# Altium schematic symbol library BIB SCH GERAL.SchLib: 587 symbols (part 1 of 4)
Pins are listed as number, name and electrical type; pins without a type are passive.

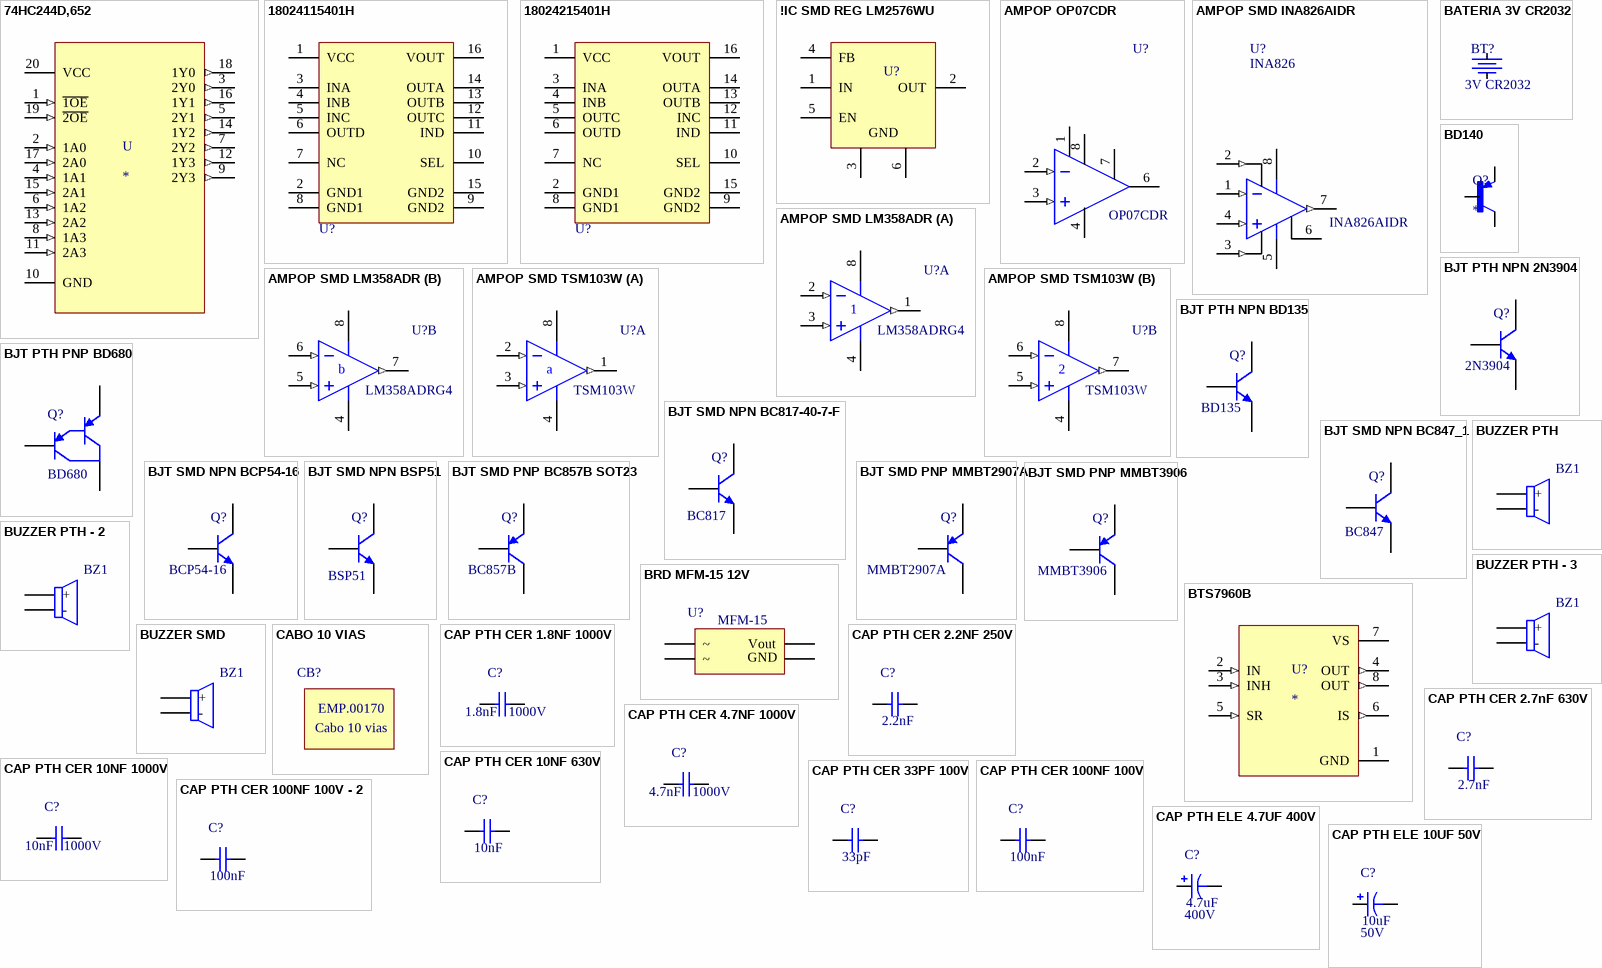
[diagram p0: symbols 74HC244D,652 to CAP PTH ELE 10UF 50V]

## 74HC244D,652
designator U
Buffer, Non-Inverting 2 Element 4 Bit per Element 3-State Output 20-SO; MF: Nexperia; MP: 74HC244D,652; Package: SOIC-20 NXP Semiconductors; Availability: Unavailable; Value: *; SnapEDA_Link: https://www.snapeda.com/parts/74HC244D%2C652/Nexperia/view-part/350903/?ref=snap; Price: None
footprint SOIC127P1032X265-20N
pins: 1 ~{1OE} (in), 2 1A0 (in), 3 2Y0 (out), 4 1A1 (in), 5 2Y1 (out), 6 1A2 (in), 7 2Y2 (out), 8 1A3 (in), 9 2Y3 (out), 10 GND, 11 2A3 (in), 12 1Y3 (out), 13 2A2 (in), 14 1Y2 (out), 15 2A1 (in), 16 1Y1 (out), 17 2A0 (in), 18 1Y0 (out), 19 ~{2OE} (in), 20 VCC (power)

## 18024115401H
designator U?, comment 3/1 Channel, 5000V, Output High  (value not drawn)
WPME-CDIP Capacitive Digital Isolator Powered, SOIC-16WB, 3/1 Channel, 5000V, Output High; Manufacturer Part Number: 18024115401H; Manufacturer: Wurth Elektronik; Common Mode Transient Immunity: 150kV/us; Data Rate: 100Mbps; Isolation Voltage: 5000V (RMS); Operating Supply Voltage Min: 3.15V; Operating Supply Voltage Max: 5.5V; Propagation Delay: 10ns; Category: Digital Isolator; Match Code: WPME-CDIP; ComponentLink1Description: Website Link; ComponentLink1URL: https://www.we-online.com/redexpert/article/18024115401H?ad; ComponentLink2Description: Datasheet Link; ComponentLink2URL: https://www.we-online.com/redexpert/spec/18024115401H?ad; Mount: Surface Mount; Operating Temperature Max: 125°C; Operating Temperature Min: -40°C; Packaging: Tape and Reel; Case/Size Code: SOIC-16WB; Length: 10.3mm; Width: 7.5mm; Height: 2.5mm; Channel Configuration: 3/1; Default Output: High
footprint WPME-CDIP_SOIC-16WB
pins: 1 VCC, 2 GND1, 3 INA, 4 INB, 5 INC, 6 OUTD, 7 NC, 8 GND1, 9 GND2, 10 SEL, 11 IND, 12 OUTC, 13 OUTB, 14 OUTA, 15 GND2, 16 VOUT

## 18024215401H
designator U?, comment 2/2 Channel, 5000V, Output High  (value not drawn)
WPME-CDIP Capacitive Digital Isolator Powered, SOIC-16WB, 2/2 Channel, 5000V, Output High; Manufacturer Part Number: 18024215401H; Manufacturer: Wurth Elektronik; Common Mode Transient Immunity: 150kV/us; Data Rate: 100Mbps; Isolation Voltage: 5000V (RMS); Operating Supply Voltage Min: 3.15V; Operating Supply Voltage Max: 5.5V; Propagation Delay: 10ns; Category: Digital Isolator; Match Code: WPME-CDIP; ComponentLink1Description: Website Link; ComponentLink1URL: https://www.we-online.com/redexpert/article/18024215401H?ad; ComponentLink2Description: Datasheet Link; ComponentLink2URL: https://www.we-online.com/redexpert/spec/18024215401H?ad; Mount: Surface Mount; Operating Temperature Max: 125°C; Operating Temperature Min: -40°C; Packaging: Tape and Reel; Case/Size Code: SOIC-16WB; Length: 10.3mm; Width: 7.5mm; Height: 2.5mm; Channel Configuration: 2/2; Default Output: High
footprint WPME-CDIP_SOIC-16WB
pins: 1 VCC, 2 GND1, 3 INA, 4 INB, 5 OUTC, 6 OUTD, 7 NC, 8 GND1, 9 GND2, 10 SEL, 11 IND, 12 INC, 13 OUTB, 14 OUTA, 15 GND2, 16 VOUT

## !IC SMD REG LM2576WU
designator U?  (value not drawn)
footprint DPAK6P170_1524X459L254X81N
pins: 1 IN, 2 OUT, 3, 4 FB, 5 EN, 6
text: GND

## AMPOP OP07CDR
designator U?  Manufacturer Part Number: OP07CDR  (hidden comment: AMPOP OP07CDR)
IC OPAMP GP 600KHZ 8SOIC; Manufacturer: Texas Instruments; Amplifier Type: General Purpose; Number of Circuits: 1; Slew Rate: 0.3 V/µs; COD. CRISTOFOLI: EMP.00350; List: IC OPAMP GP 600KHZ 8SOIC/OP07CDR/Texas Instruments; Current - Input Bias: 1.8nA; Voltage - Input Offset: 60µV; Voltage - Supply, Single/Dual (±): ±3 V ~ 18 V; Supplier 1: Digi-Key; RoHS: RoHS Compliant; Category: Integrated Circuits (ICs); Stock 1: 8993; Pricing 1: 1=0.82, 10=0.722, 25=0.638, 100=0.556, 250=0.484, 500=0.412, 750=0.36, 1000=0.33 (USD); Packaging: Digi-Reel®; Output Type: -; Current - Supply: -; Current - Output / Channel: -; Operating Temperature: 0°C ~ 70°C; Mounting Type: Surface Mount; Package / Case: 8-SOIC (0.154", 3.90mm Width); Supplier Device Package: 8-SOIC; ComponentLink1URL: http://www.ti.com/lit/ds/symlink/op07c.pdf; ComponentLink1Description: http://www.ti.com/lit/ds/symlink/op07c.pdf; Supplier Part Number 1: 296-14626-6-ND
footprint SOIC8
pins: 1 0FF2, 2 IN- (in), 3 IN+ (in), 4 V- (power), 6 OUT, 7 V+ (power), 8 0FF1 (power)

## AMPOP SMD INA826AIDR
designator U?, comment INA826  Manufacturer Part Number: INA826AIDR
IC OPAMP INSTR 1MHZ RRO 8SOIC; Manufacturer: Texas Instruments; Amplifier Type: Instrumentation; Number of Circuits: 1; Output Type: Rail-to-Rail; Slew Rate: 1 V/µs; Current - Input Bias: 35nA; Voltage - Input Offset: 40µV; Current - Supply: 200µA; Current - Output / Channel: 16mA; Voltage - Supply, Single/Dual (±): 2.7 V ~ 36 V, ±1.35 V ~ 18 V; List: IC OPAMP INSTR 1MHZ RRO 8SOIC/INA826AIDR/Texas Instrument; COD. CRISTOFOLI: EMP.00206; Supplier 1: Digi-Key; RoHS: RoHS Compliant; Category: Integrated Circuits (ICs); Stock 1: 3194; Pricing 1: 1=3.16, 10=2.851, 25=2.5544, 100=2.2968, 250=2.0394, 500=1.782, 750=1.61371, 1000=1.2375 (USD); Packaging: Digi-Reel®; Gain Bandwidth Product: -; Operating Temperature: -40°C ~ 125°C; Mounting Type: Surface Mount; Package / Case: 8-SOIC (0.154", 3.90mm Width); Supplier Device Package: 8-SOIC; ComponentLink1URL: http://www.ti.com/lit/ds/symlink/ina826.pdf; EMP: *; list: *; Supplier Part Number 1: 296-30238-6-ND
footprint 8SOIC
pins: 1 IN- (in), 2 RG (in), 3 RG (in), 4 IN+ (in), 5 V- (power), 6 REF (power), 7 OUT (out), 8 V+ (power)

## AMPOP SMD LM358ADR
designator U?  Manufacturer Part Number: LM358ADRG4  (hidden comment: AMPOP SMD LM358ADR)
Dual Operational Amplifier; Manufacturer: Texas Instruments; List: IC OPAMP GP 700KHZ DUAL 8SOIC / LM358ADRG4 / Texas Inst /  DIODES INCORPORATED - AS358AMTR-G1; COD. CRISTOFOLI: EMP.00074; Published: 15-Apr-2002; LatestRevisionDate: 13-Apr-2006; LatestRevisionNote: IPC-7351 Footprint Added.; DatasheetVersion: Aug-1988; PackageVersion: Jan-1998; PackageReference: D008; Publisher: Altium Limited; Code_IPC: SOIC127P600-8; ComponentLink1Description: Manufacturer Link; ComponentLink2Description: Datasheet; ComponentLink2URL: http://www-s.ti.com/sc/ds/lm358.pdf
footprint D008_L (SOIC, 8-Leads, Body 4.9x3.9mm, Pitch 1.27mm, IPC High Density)
footprint D008_M (SOIC, 8-Leads, Body 4.9x3.9mm, Pitch 1.27mm, IPC Low Density)
footprint D008_M (SOIC, 8-Leads, Body 4.9x3.9mm, Pitch 1.27mm, IPC Low Density)
3D model D008 (8-Pin Small Outline Integrated Circuit 1.27 mm Pitch)
footprint soic8
pins on every part: 4 V- (power), 8 V+ (power)
part A pins: 1 OUT (out), 2 IN- (in), 3 IN+ (in)
part B pins: 5 IN+ (in), 6 IN- (in), 7 OUT (out)
part B text: b

## AMPOP SMD TSM103W
designator U?, comment Manufacturer Part Number: TSM103W  (hidden comment: AMPOP SMD LM358ADR)
Dual Operational Amplifier; Manufacturer: Texas Instruments; List: IC OPAMP GP 700KHZ DUAL 8SOIC / LM358ADRG4 / Texas Inst /  DIODES INCORPORATED - AS358AMTR-G1; COD. CRISTOFOLI: EMP.00074; Published: 15-Apr-2002; LatestRevisionDate: 13-Apr-2006; LatestRevisionNote: IPC-7351 Footprint Added.; DatasheetVersion: Aug-1988; PackageVersion: Jan-1998; PackageReference: D008; Publisher: Altium Limited; Code_IPC: SOIC127P600-8; ComponentLink1Description: Manufacturer Link; ComponentLink2Description: Datasheet; ComponentLink2URL: http://www-s.ti.com/sc/ds/lm358.pdf
footprint D008_L (SOIC, 8-Leads, Body 4.9x3.9mm, Pitch 1.27mm, IPC High Density)
footprint D008_M (SOIC, 8-Leads, Body 4.9x3.9mm, Pitch 1.27mm, IPC Low Density)
footprint D008_M (SOIC, 8-Leads, Body 4.9x3.9mm, Pitch 1.27mm, IPC Low Density)
3D model D008 (8-Pin Small Outline Integrated Circuit 1.27 mm Pitch)
footprint soic8
pins on every part: 4 V- (power), 8 V+ (power)
part A pins: 1 OUT (out), 2 IN- (in), 3 IN+ (in)
part B pins: 5 IN+ (in), 6 IN- (in), 7 OUT (out)
part A text: a

## BATERIA 3V CR2032
designator BT?  value 3V CR2032  (hidden comment: BATERIA 3V CR2032)
List: BATTERY LITHIUM 3V COIN 20MM/CR2032VP/Energizer Battery Company; COD. CRISTOFOLI: EMP.00351; Published: 24-Mar-1999; LatestRevisionDate: 17-Jul-2002; LatestRevisionNote: Re-released for DXP Platform.; PackageReference: BAT-2; PackageDescription: Battery; 2 Leads
footprint BATTERY_HOLDER_20MM

## BD140
designator Q?
TRANS PNP 80V 1.5A SOT-32; MP: BD140; Value: *; Package: None; Availability: Unavailable; Price: None
footprint TO245P780X300X1364-3
pins: 1 E, 2 C, 3 B

## BJT PTH NPN 2N3904
designator Q?  value 2N3904  (hidden comment: BJT PTH NPN 2N3904)
Manufacturer Part Number: 2N3904-AP; COD. CRISTOFOLI: EMP.00028; List: TRANSISTOR NPN GP 40V TO92 – 2N3904-AP
footprint TO92(226)
pins: 1 C, 2 B, 3 E

## BJT PTH NPN BD135
designator Q?  value BD135  (hidden comment: BJT PTH NPN BD135)
Manufacturer Part Number: BD135G; COD. CRISTOFOLI: EMP.00000; Voltage: 45V; List: TRANSISTOR NPN  45V TO225 – BD135G
footprint TO225
pins: 1 E, 2 C, 3 B

## BJT PTH PNP BD680
designator Q?  Manufacturer Part Number: BD680  (hidden comment: BJT PTH PNP BD680)
Manufacturer: ST Microelectronics; COD. CRISTOFOLI: EMP.00193; List: TRANS DARL PNP 80V SOT-32/BD680/STMicroelectronics; Value: BD680
footprint TO225
pins: 1 E, 2 B, 3 C

## BJT SMD NPN BC817-40-7-F
designator Q?  value BC817  (hidden comment: BJT SMD NPN BC817-40-7-F)
Manufacturer: Diodes Inc; COD. CRISTOFOLI: EMP.00060; List: TRANSISTOR NPN 45V SOT23-3 / BC817-40-7-F / Diodes Inc; Manufacturer Part Number: BC817-40-7-F
footprint SOT23H
pins: 1 B, 2 E, 3 C

## BJT SMD NPN BC847_1
designator Q?, comment value BC847  (hidden comment: BJT SMD NPN BC847)
Manufacturer: MOTOROLA; COD. CRISTOFOLI: EMP.00013; List: TRANSISTOR NPN 45V 100MA SOT-23 BC847BLT1G/BC847B-7-F; Manufacturer Part Number: BC847
footprint SOT23H
pins: 1 B, 2 E, 3 C

## BJT SMD NPN BCP54-16
designator Q?  value BCP54-16  (hidden comment: BJT SMD NPN BCP54-16)
Manufacturer: NXP Semiconductors; Manufacturer Part Number: BCP54-16,115; COD. CRISTOFOLI: EMP.00062; List: TRANSISTOR NPN 45V 1A SOT223 / BCP54-16,115 / NXP Semiconductors
footprint SOT223
pins: 1 C, 2 B, 3 E

## BJT SMD NPN BSP51
designator Q?  value BSP51  (hidden comment: BJT SMD NPN BSP51)
Manufacturer: Diodes Inc; COD. CRISTOFOLI: EMP.50061; List: BJT SMD NPN BSP51,115 SOT223
footprint SOT223
pins: 1 B, 3 E, 4 C

## BJT SMD PNP BC857B SOT23
designator Q?  value BC857B  (hidden comment: BJT SMD PNP BC857B SOT23)
Manufacturer: Fairchild Semiconductor; Manufacturer Part Number: BC857BMTF; COD. CRISTOFOLI: EMP.50021; List: BJT SMD PNP BC857B SOT23
footprint SOT23H
pins: 1 B, 2 E, 3 C

## BJT SMD PNP MMBT2907A
designator Q?  value MMBT2907A  (hidden comment: BJT SMD PNP MMBT2907A)
Manufacturer: Diodes Inc; Manufacturer Part Number: MMBT2907A-7-F; COD. CRISTOFOLI: EMP.00125; List: TRANS PNP 60V 300MW SMD SOT23-3/MMBT2907A-7-F/Diodes Inc
footprint SOT23H
pins: 1 B, 2 E, 3 C

## BJT SMD PNP MMBT3906
designator Q?  value MMBT3906  (hidden comment: BJT SMD PNP MMBT3906)
Manufacturer: Diodes Inc; Manufacturer Part Number: MMBT3906-7-F; COD. CRISTOFOLI: EMP.00061; List: TRANS PNP 40V 300MW SMD SOT23-3 / MMBT3906-7-F / Diodes Inc
footprint SOT23H
pins: 1 C, 2 B, 3 E

## BRD MFM-15 12V
designator U?, comment value MFM-15  (hidden comment: IC SMD CONV BUCK LT3971EMSE-5)
Conversor AC/DC; Manufacturer: Linear Technology; Manufacturer Part Number: LT3971EMSE-5#PBF; COD. CRISTOFOLI: EMP.00234; List: IC REG BUCK 5V 1.2A 10-MSOP/LT3971EMSE-5#PBF/Linear Technology
footprint mfm-15
pins: 1 GND, 2 Vout, 3 ~, 4 ~

## BTS7960B
designator U?
Half Bridge Driver DC Motors, General Purpose DMOS PG-TO263-7-1; MF: Infineon; MP: BTS7960B; Package: TO-263 Infineon; Check_prices: https://www.snapeda.com/parts/BTS7960B/Infineon+Technologies/view-part/?ref=eda; Availability: In Stock; Value: *; Price: None; SnapEDA_Link: https://www.snapeda.com/parts/BTS7960B/Infineon+Technologies/view-part/?ref=snap
footprint dpak127p1490x440-8n
pins: 1 GND (power), 2 IN (in), 3 INH (in), 4 OUT (out), 5 SR (in), 6 IS (out), 7 VS (power), 8 OUT (out)

## BUZZER PTH
designator BZ1, comment Buzzer 9mm  (value not drawn)
COD. CRISTOFOLI: EMP.00057; List: BUZZER 2 kHz a 3 kHz 4-6V EXT DRIVE / GT0905A - Soberton Inc / Kr 1365A05 – Kore Eletronics
footprint BUZZER_9MM
pins: 1 +, 2 -

## BUZZER PTH - 2
designator BZ1, comment Buzzer 9mm  (value not drawn)
COD. CRISTOFOLI: EMP.00152; List: BUZZER 2.73KHZ 4-6V EXT DRIVE /GT0905A/Soberton Inc
footprint BUZZER_9MM
pins: 1 +, 2 -

## BUZZER PTH - 3
designator BZ1, comment Buzzer 9mm  (value not drawn)
COD. CRISTOFOLI: EMP.00323; List: Buzzer piezzo OSC EXTERNO/ SPT-27W-LP/sonalarme
footprint BUZZER_9MM
pins: 1 +, 2 -

## BUZZER SMD
designator BZ1, comment Buzzer 9mm  (value not drawn)
COD. CRISTOFOLI: EMP.00011; List: ALARME SONORO 5V 88DBA 2400HZ - PUI AUDIO SMI-1324-TW-5V-2-R / MESSRS AD-1305-GU2-LF/ Kr 1365A05 – Kore Eletronics
footprint BUZZER_9MM
pins: 1 +, 2 -

## CABO 10 VIAS
designator CB?  COD. CRISTOFOLI: EMP.00170  Voltage: Cabo 10 vias
List: Cabo Display VPN 12/21 Manga IFE 10 X 26 AWG-BT (Com Blindagem em traça de cobre)

## CAP PTH CER 1.8NF 1000V
designator C?  value 1.8nF  Voltage: 1000V  (hidden comment: CAP PTH CER 1.8NF 1000V)
COD. CRISTOFOLI: EMP.00278; Tolerance: 10%; List: CAP CER 1800PF 1KV 10% RADIAL/S182K33Y5PN63L6R/Vishay BC Components; Type: CERAMIC
pins: 1, 2

## CAP PTH CER 2.2NF 250V
designator C?  value 2.2nF  (hidden comment: CAP PTH CER 2.2NF 250V)
COD. CRISTOFOLI: EMP.00105; Tolerance: 20%; List: CAP CER 2200PF 250VAC 20% RADIAL/CD12-E2GA222MYNS/TDK; Type: CERAMIC; Voltage: 250V
pins: 1, 2

## CAP PTH CER 2.7nF 630V
designator C?  value 2.7nF  (hidden comment: CAP PTH CER 2.7nF 630V)
Manufacturer: TDK; Manufacturer Part Number: FG26C0G2J272JNT00; COD. CRISTOFOLI: EMP.00440; Tolerance: 5%; List: CAP PTH CER 2.7nF 630V / FG26C0G2J272JNT00; Type: CERAMIC CAPACITOR; Voltage: 630V
pins: 1, 2

## CAP PTH CER 4.7NF 1000V
designator C?  value 4.7nF  Voltage: 1000V  (hidden comment: CAP PTH CER 4.7NF 1000V)
COD. CRISTOFOLI: EMP.00189; Tolerance: 20%; List: CAP CER 4700PF 1KV RADIAL/DEBF33A472ZN2A/Murata Electronics North America; Type: CERAMIC
pins: 1, 2

## CAP PTH CER 10NF 630V
designator C?  value 10nF  (hidden comment: CAP PTH CER 10NF 630V)
COD. CRISTOFOLI: EMP.00123; Tolerance: 5%; List: CAP CER 10000PF 630V 5% RADIAL/FK22C0G2J103J/TDK Corporation; Type: CERAMIC; Voltage: 630V
pins: 1, 2

## CAP PTH CER 10NF 1000V
designator C?  value 10nF  Voltage: 1000V  (hidden comment: CAP PTH CER 10NF 1000V)
COD. CRISTOFOLI: EMP.00103; Tolerance: 20%; List: CAP CER 10000PF 1KV RADIAL/DEBF33A103ZN2A/Murata; Type: CERAMIC
pins: 1, 2

## CAP PTH CER 33PF 100V
designator C?  value 33pF  (hidden comment: CAP PTH CER 33PF 100V)
COD. CRISTOFOLI: EMP.00296; Tolerance: 5%; List: CAP CER 33PF 100V 5% RADIAL/SR211A330JARTR1/AVX Corporation; Type: CERAMIC; Voltage: 100V
pins: 1, 2

## CAP PTH CER 100NF 100V
designator C?  value 100nF  (hidden comment: CAP PTH CER 100NF 100V)
COD. CRISTOFOLI: EMP.00285; Tolerance: 20%; List: CAP CER 0.1UF 100V 20% RADIAL /C320C104M1U5TA/Generic; Type: CERAMIC; Voltage: 100V
pins: 1, 2

## CAP PTH CER 100NF 100V - 2
designator C?  value 100nF  (hidden comment: CAP PTH CER 100NF 100V - 2)
COD. CRISTOFOLI: EMP.00287; Tolerance: 20%; List: CAP CER 0.1UF 100V 20% RADIAL/ C322C104M1U5TA7301/Generic; Type: CERAMIC; Voltage: 100V
pins: 1, 2

## CAP PTH ELE 4.7UF 400V
designator C?  value 4.7uF  Voltage: 400V  (hidden comment: CAP PTH ELE 4.7UF 400V)
COD. CRISTOFOLI: EMP.00217; Tolerance: 20%; List: CAP ALUM 4.7UF 400V 20% RADIAL/400PX4R7MEFCTA8X11.5/Rubycon/Generic; Type: ALUMINIUM ELETROLITHIC
footprint CAP8X12.5X3.5_90°
pins: 1, 2

## CAP PTH ELE 10UF 50V
designator C?  value 10uF  Voltage: 50V  (hidden comment: CAP PTH ELE 10UF 50V)
COD. CRISTOFOLI: EMP.00097; Tolerance: 20%; List: CAP ALUM 10UF 50V 20% RADIAL/ECA-1HHG100/Panasonic; Type: ALUMINIUM ELETROLITHIC
pins: 1, 2

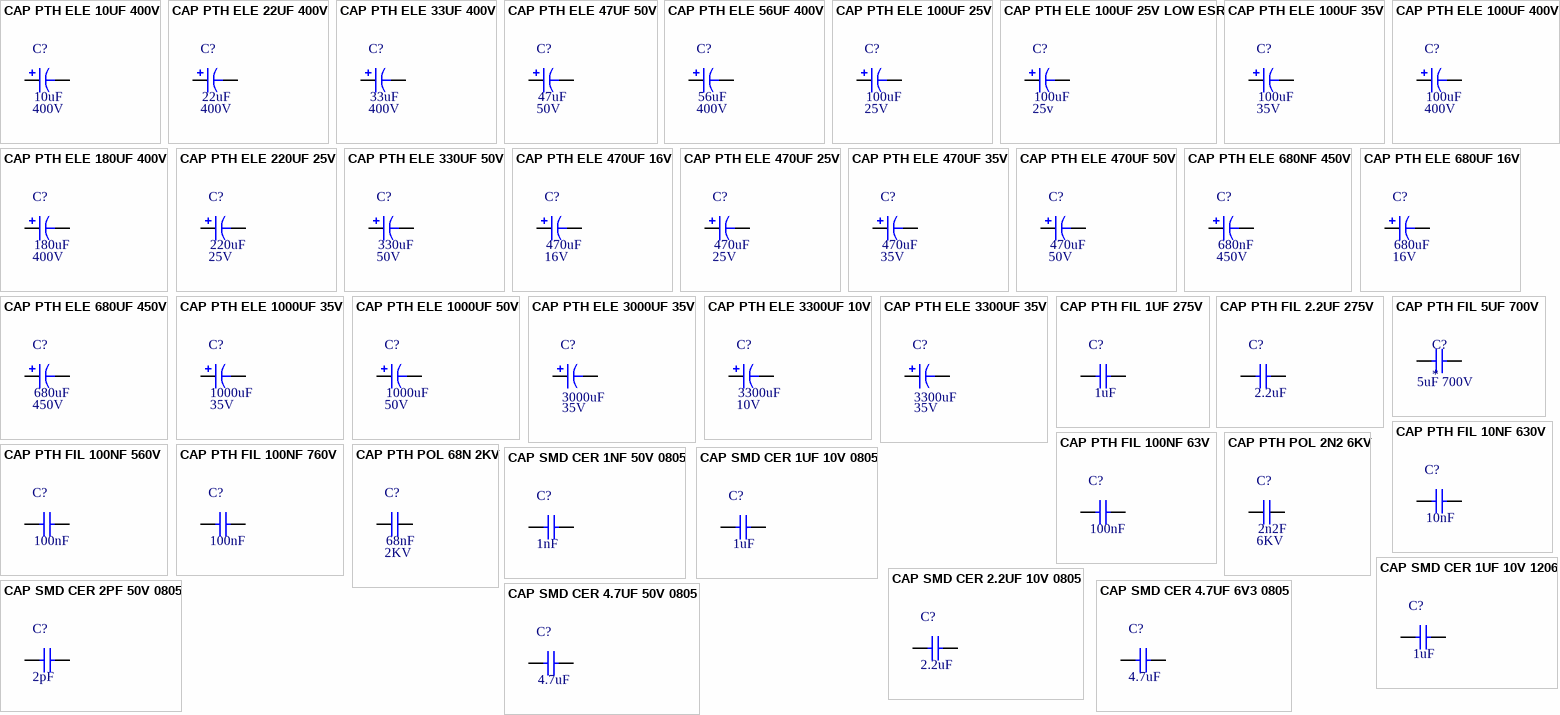
[diagram p1: symbols CAP PTH ELE 10UF 400V to CAP SMD CER 4.7UF 50V 0805]

## CAP PTH ELE 10UF 400V
designator C?  value 10uF  Voltage: 400V  (hidden comment: CAP PTH ELE 10UF 400V)
COD. CRISTOFOLI: EMP.00219; Tolerance: 20%; List: CAP ALUM 10UF 400V 20% RADIAL/EEU-EE2G100/Panasonic Electronic Components/Generic; Type: ALUMINIUM ELETROLITHIC
pins: 1, 2

## CAP PTH ELE 22UF 400V
designator C?  value 22uF  Voltage: 400V  (hidden comment: CAP PTH ELE 22UF 400V)
COD. CRISTOFOLI: EMP.00277; Tolerance: 20%; List: CAP ALUM 22UF 400V 20% RADIAL/Generic; Type: ALUMINIUM ELETROLITHIC
pins: 1, 2

## CAP PTH ELE 33UF 400V
designator C?  value 33uF  Voltage: 400V  (hidden comment: CAP PTH ELE 33UF 400V)
COD. CRISTOFOLI: EMP.00161; Tolerance: 20%; List: CAP ALUM 33UF 400V 20% SNAP/LAQ2G330MELZ25/Nichicon; Type: ALUMINIUM ELETROLITHIC
pins: 1, 2

## CAP PTH ELE 47UF 50V
designator C?  value 47uF  Voltage: 50V  (hidden comment: CAP PTH ELE 47UF 50V)
COD. CRISTOFOLI: EMP.00095; Tolerance: 20%; List: CAP ALUM 47UF 50V 20% RADIAL/ECA-1HM470I/Panasonic; Type: ALUMINIUM ELETROLITHIC
pins: 1, 2

## CAP PTH ELE 56UF 400V
designator C?  value 56uF  Voltage: 400V  (hidden comment: CAP PTH ELE 56UF 400V)
COD. CRISTOFOLI: EMP.00190; Tolerance: 20%; List: CAP ALUM 56UF 400V 20% RADIAL/UCY2G560MHD6TN/Nichicon; Type: ALUMINIUM ELETROLITHIC
pins: 1, 2

## CAP PTH ELE 100UF 25V
designator C?  value 100uF  Voltage: 25V  (hidden comment: CAP PTH ELE 100UF 25V)
COD. CRISTOFOLI: EMP.00025; Tolerance: 20%; List: CAP ALUM 100UF 25V 20% RADIAL - ECA-1EM101I; Type: ALUMINIUM ELETROLITHIC
footprint CAPELETR11X6.3X2.5
pins: 1, 2

## CAP PTH ELE 100UF 25V LOW ESR
designator C?  value 100uF  Voltage: 25v  (hidden comment: CAP PTH ELE 100UF 25V LOW ESR)
COD. CRISTOFOLI: EMP.00402; Tolerance: 20%; List: CAP ALUM 100UF LOW ESR 130mOhm 20% 25V RADIAL/ESY107M025AE3AA/KEMET/CRITICO; Type: ALUMINIUM ELETROLITHIC
pins: 1, 2

## CAP PTH ELE 100UF 35V
designator C?  value 100uF  Voltage: 35V  (hidden comment: CAP PTH ELE 100UF 35V)
COD. CRISTOFOLI: EMP.00117; Tolerance: 20%; List: CAP ALUM 100UF 35V 20% RADIAL/EEU-FC1V101/United Chemi-Con; Type: ALUMINIUM ELETROLITHIC
pins: 1, 2

## CAP PTH ELE 100UF 400V
designator C?  value 100uF  Voltage: 400V  (hidden comment: CAP PTH ELE 100UF 400V)
COD. CRISTOFOLI: EMP.00090; Tolerance: 20%; List: CAP ALUM 100UF 400V 20% SNAP/ECO-S2GP101CA/Panasonic Electronic; Type: ALUMINIUM ELETROLITHIC
pins: 1, 2

## CAP PTH ELE 180UF 400V
designator C?  value 180uF  Voltage: 400V  (hidden comment: CAP PTH ELE 180UF 400V)
COD. CRISTOFOLI: EMP.00221; Tolerance: 20%; List: CAP ALUM 180UF 400V 20% SNAP/LGU2G181MELA/Nichicon/; Type: ALUMINIUM ELETROLITHIC
pins: 1, 2

## CAP PTH ELE 220UF 25V
designator C?  value 220uF  Voltage: 25V  (hidden comment: CAP PTH ELE 220UF 25V)
COD. CRISTOFOLI: EMP.00080; Tolerance: 20%; List: CAP ALUM 220UF 25V 20% RADIAL - ECA-1EM101I; Type: ALUMINIUM ELETROLITHIC
pins: 1, 2

## CAP PTH ELE 330UF 50V
designator C?  value 330uF  Voltage: 50V  (hidden comment: CAP PTH ELE 330UF 50V)
COD. CRISTOFOLI: EMP.00220; Tolerance: 20%; List: CAP ALUM 330UF 50V 20% RADIAL/ECA-1HHG331I/ECA-1HHG331I/GENERIC; Type: ALUMINIUM ELETROLITHIC
pins: 1, 2

## CAP PTH ELE 470UF 16V
designator C?  value 470uF  Voltage: 16V  (hidden comment: CAP PTH ELE 470UF 16V)
Manufacturer: PANASONIC; Manufacturer Part Number: ECA-1CM471; COD. CRISTOFOLI: EMP.00000; Tolerance: 20%; List: CAP ALUM 470UF 16V 20% RADIAL / ECA-1CM471/PANASONIC; Type: ALUMINIUM ELETROLITHIC
pins: 1, 2

## CAP PTH ELE 470UF 25V
designator C?  value 470uF  Voltage: 25V  (hidden comment: CAP PTH ELE 470UF 25V)
COD. CRISTOFOLI: EMP.00165; Tolerance: 20%; List: CAP ALUM 470UF 25V 20% RADIAL / EKZE250ELL471MJ16S/United Chemi-Con; Type: ALUMINIUM ELETROLITHIC
pins: 1, 2

## CAP PTH ELE 470UF 35V
designator C?  value 470uF  Voltage: 35V  (hidden comment: CAP PTH ELE 470UF 35V)
COD. CRISTOFOLI: EMP.00272; Tolerance: 20%; List: CAP ALUM 470UF 35V 20% RADIAL/ GENERIC; Type: ALUMINIUM ELETROLITHIC
pins: 1, 2

## CAP PTH ELE 470UF 50V
designator C?  value 470uF  Voltage: 50V  (hidden comment: CAP PTH ELE 470UF 50V)
COD. CRISTOFOLI: EMP.00297; Tolerance: 20%; List: CAP ALUM 470UF 20% 50V RADIAL Diam 10mm x 5mm/Generic; Type: ALUMINIUM ELETROLITHIC
pins: 1, 2

## CAP PTH ELE 680NF 450V
designator C?  value 680nF  Voltage: 450V  (hidden comment: CAP PTH ELE 680NF 450V)
COD. CRISTOFOLI: EMP.00216; Tolerance: 20%; List: CAP ALUM 680UF 16V 20% RADIAL/EEU-FR1C681LB/Panasonic; Type: ALUMINIUM ELETROLITHIC
footprint CAP25X12.5X5
pins: 1, 2

## CAP PTH ELE 680UF 16V
designator C?  value 680uF  Voltage: 16V  (hidden comment: CAP PTH ELE 680UF 16V)
COD. CRISTOFOLI: EMP.00216; Tolerance: 20%; List: CAP ALUM 680UF 16V 20% RADIAL/EEU-FR1C681LB/Panasonic; Type: ALUMINIUM ELETROLITHIC
pins: 1, 2

## CAP PTH ELE 680UF 450V
designator C?  value 680uF  Voltage: 450V  (hidden comment: CAP PTH ELE 680UF 450V)
COD. CRISTOFOLI: EMP.50151; Tolerance: 20%; Type: ALUMINIUM ELETROLITHIC; List: CAP PTH ELE 680UF 450V; Parameter 1: *
footprint CAPPRD1000W160D3600H5200
pins: 1, 2

## CAP PTH ELE 1000UF 35V
designator C?  value 1000uF  Voltage: 35V  (hidden comment: CAP PTH ELE 1000UF 35V)
COD. CRISTOFOLI: EMP.00116; Tolerance: 20%; List: CAP ALUM 1000UF 35V 20% RADIAL LOW ESR/EEU-FC1V102S/Panasonic Electronic Components; Type: ALUMINIUM ELETROLITHIC
pins: 1, 2

## CAP PTH ELE 1000UF 50V
designator C?  value 1000uF  Voltage: 50V  (hidden comment: CAP PTH ELE 1000UF 50V)
COD. CRISTOFOLI: EMP.00023; Tolerance: 20%; List: CAP ALUM 1000UF 50V 20% RADIAL / ECA-1HM102 / Panasonic; Type: ALUMINIUM ELETROLITHIC
pins: 1, 2

## CAP PTH ELE 3000UF 35V
designator C?  value 3000uF  Voltage: 35V  (hidden comment: CAP PTH ELE 3000UF 35V)
EKYC350ELL302MM20S; Manufacturer Part Number: UVZ1V332MHD; COD. CRISTOFOLI: EMP.00000; Tolerance: 20%; List: CAP ALUM 3300UF 35V 20% RADIAL / UVZ1V332MHD / Nichicon; Type: ALUMINIUM ELETROLITHIC
footprint CAP 20x18x7.5
pins: 1, 2

## CAP PTH ELE 3300UF 10V
designator C?  value 3300uF  Voltage: 10V  (hidden comment: CAP PTH ELE 3300UF 10V)
COD. CRISTOFOLI: EMP.00228; Tolerance: 20%; List: CAP ALUM 3300UF 10V 20% RADIAL/UVR1A332MHD/Nichicon; Type: ALUMINIUM ELETROLITHIC
pins: 1, 2

## CAP PTH ELE 3300UF 35V
designator C?  value 3300uF  Voltage: 35V  (hidden comment: CAP PTH ELE 3300UF 35V)
Manufacturer Part Number: UVZ1V332MHD; COD. CRISTOFOLI: EMP.00000; Tolerance: 20%; List: CAP ALUM 3300UF 35V 20% RADIAL / UVZ1V332MHD / Nichicon; Type: ALUMINIUM ELETROLITHIC
pins: 1, 2

## CAP PTH FIL 1UF 275V
designator C?  value 1uF  (hidden comment: CAP PTH FIL 1UF 275V)
COD. CRISTOFOLI: EMP.00389; Tolerance: 20%; List: CAP FILM 1UF 20% 275VAC RADIAL/ECQ-U2A105ML/Panasonic; Type: FILM POLYESTER; Voltage: 275V
footprint CAP11x26
pins: 1, 2

## CAP PTH FIL 2.2UF 275V
designator C?  value 2.2uF  (hidden comment: CAP PTH FIL 2.2UF 275V)
COD. CRISTOFOLI: EMP.00389; Tolerance: 20%; List: CAP FILM 1UF 20% 275VAC RADIAL/ECQ-U2A105ML/Panasonic; Type: FILM POLYESTER; Voltage: 275V
footprint CAP15x26
pins: 1, 2

## CAP PTH FIL 5UF 700V
designator C?
footprint CAPW31L14,7H15P27 (W=width, L=Length, H=Height, P=Pitch)
pins: 1, 2
text: 5uF 700V

## CAP PTH FIL 10NF 630V
designator C?  value 10nF  (hidden comment: CAP PTH FIL 10NF 630V)
COD. CRISTOFOLI: EMP.00044; Tolerance: 10%; List: CAP FILM 10000PF 630VDC RADIAL / B32620A6103K189 / EPCOS; Type: FILM POLYESTER; Voltage: 630V
pins: 1, 2

## CAP PTH FIL 100NF 63V
designator C?  value 100nF  (hidden comment: CAP PTH FIL 100NF 63V)
COD. CRISTOFOLI: EMP.00370; Tolerance: 5%; List: CAP FILM 0.1UF 5% 63VDC RADIAL/R82DC3100DQ50J/Kemet; Type: FILM POLYESTER; Voltage: 63V
pins: 1, 2

## CAP PTH FIL 100NF 560V
designator C?  value 100nF  (hidden comment: CAP PTH FIL 100NF 560V)
COD. CRISTOFOLI: EMP.00086; Tolerance: 10%; List: CAP FILM 0.1UF 560VDC RADIAL/R46KI310000M1K/Panasonic; Type: FILM POLYESTER; Voltage: 560V
pins: 1, 2

## CAP PTH FIL 100NF 760V
designator C?  value 100nF  (hidden comment: CAP PTH FIL 100NF 760V)
COD. CRISTOFOLI: EMP.00328; Tolerance: 20%; List: CAP FILM 0.1UF 760VDC RADIAL/ PHE840MB6100MB05R17 /Kemet; Type: FILM POLYESTER; Voltage: 760V
pins: 1, 2

## CAP PTH POL 2N2 6KV
designator C?, comment value 2n2F  Voltage: 6KV  (hidden comment: CAP PTH ELE 2N2 6KV)
Manufacturer: PANASONIC; Manufacturer Part Number: ECA-1CM471; COD. CRISTOFOLI: EMP.50154; Tolerance: 20%; Type: ALUMINIUM ELETROLITHIC; List: CAP PTH ELE 2N2 6KV
footprint CAP2N26KV
pins: 1, 2

## CAP PTH POL 68N 2KV
designator C?  value 68nF  Voltage: 2KV  (hidden comment: CAP PTH POL 68N 2KV)
Manufacturer: PANASONIC; Manufacturer Part Number: ECA-1CM471; COD. CRISTOFOLI: EMP.50154; Tolerance: 20%; List: CAP PTH ELE 2N2 6KV; Type: ALUMINIUM ELETROLITHIC
footprint CAP2N26KV
pins: 1, 2

## CAP SMD CER 1NF 50V 0805
designator C?  value 1nF  (hidden comment: CAP SMD CER 1NF 50V 0805)
Manufacturer Part Number: C0805C102K5RECAUTO; COD. CRISTOFOLI: EMP.00000; Tolerance: 10%; List: CAP CER 1nF 50V 10% X7R 0805/C0805C102K5RECAUTO/KEMET; Type: CERAMIC; Voltage: 50V
footprint CAP0805OK
pins: 1, 2

## CAP SMD CER 1UF 10V 0805
designator C?  value 1uF  (hidden comment: CAP SMD CER 1UF 10V 0805)
COD. CRISTOFOLI: EMP.00209; Tolerance: 20%; List: CAP- SMD/SMT X7R 0805 10V 1uF 20%/LMK212BJ105MG-T/Taiyo Yuden; Type: CERAMIC; Voltage: 10V
pins: 1, 2

## CAP SMD CER 1UF 10V 1206
designator C?  value 1uF  (hidden comment: CAP SMD CER 1UF 10V 1206)
COD. CRISTOFOLI: EMP.50142; Tolerance: 20%; Type: CERAMIC; Voltage: 10V; List: CAP SMD CER 1UF 10V 1206
footprint CAPC1206 (Multilayer Ceramic Capacitors MLCC  3.2X1.6X1mm)
pins: 1, 2

## CAP SMD CER 2.2UF 10V 0805
designator C?  value 2.2uF  (hidden comment: CAP SMD CER 2.2UF 10V 0805)
COD. CRISTOFOLI: EMP.00212; Tolerance: 10%; List: CAP CER 2.2UF 10V 10% X7R 0805/LMK212B7225KG-T/Taiyo Yuden/Generic; Type: CERAMIC; Voltage: 10V
pins: 1, 2

## CAP SMD CER 2PF 50V 0805
designator C?  value 2pF  (hidden comment: CAP SMD CER 2PF 50V 0805)
COD. CRISTOFOLI: EMP.50160; Tolerance: 10%; Type: CERAMIC; Voltage: 50V; List: CAP SMD CER 2PF 50V 0805
footprint CAP0805OK
pins: 1, 2

## CAP SMD CER 4.7UF 6V3 0805
designator C?  value 4.7uF  (hidden comment: CAP SMD CER 4.7UF 6V3 0805)
COD. CRISTOFOLI: EMP.00211; Tolerance: 20%; List: CAP CER 4.7UF 6.3V 20% X5R 0805/JMK212BJ475MG-T/Taiyo Yuden/Generic; Type: CERAMIC; Voltage: 6V3
pins: 1, 2

## CAP SMD CER 4.7UF 50V 0805
designator C?  value 4.7uF  (hidden comment: CAP SMD CER 4.7UF 50V 0805)
COD. CRISTOFOLI: EMP.00333; Tolerance: 10%; List: CAP CER 4.7UF 50V X5R 0805/CL21A475KBQNNNE/Samsung; Type: CERAMIC; Voltage: 50V
pins: 1, 2

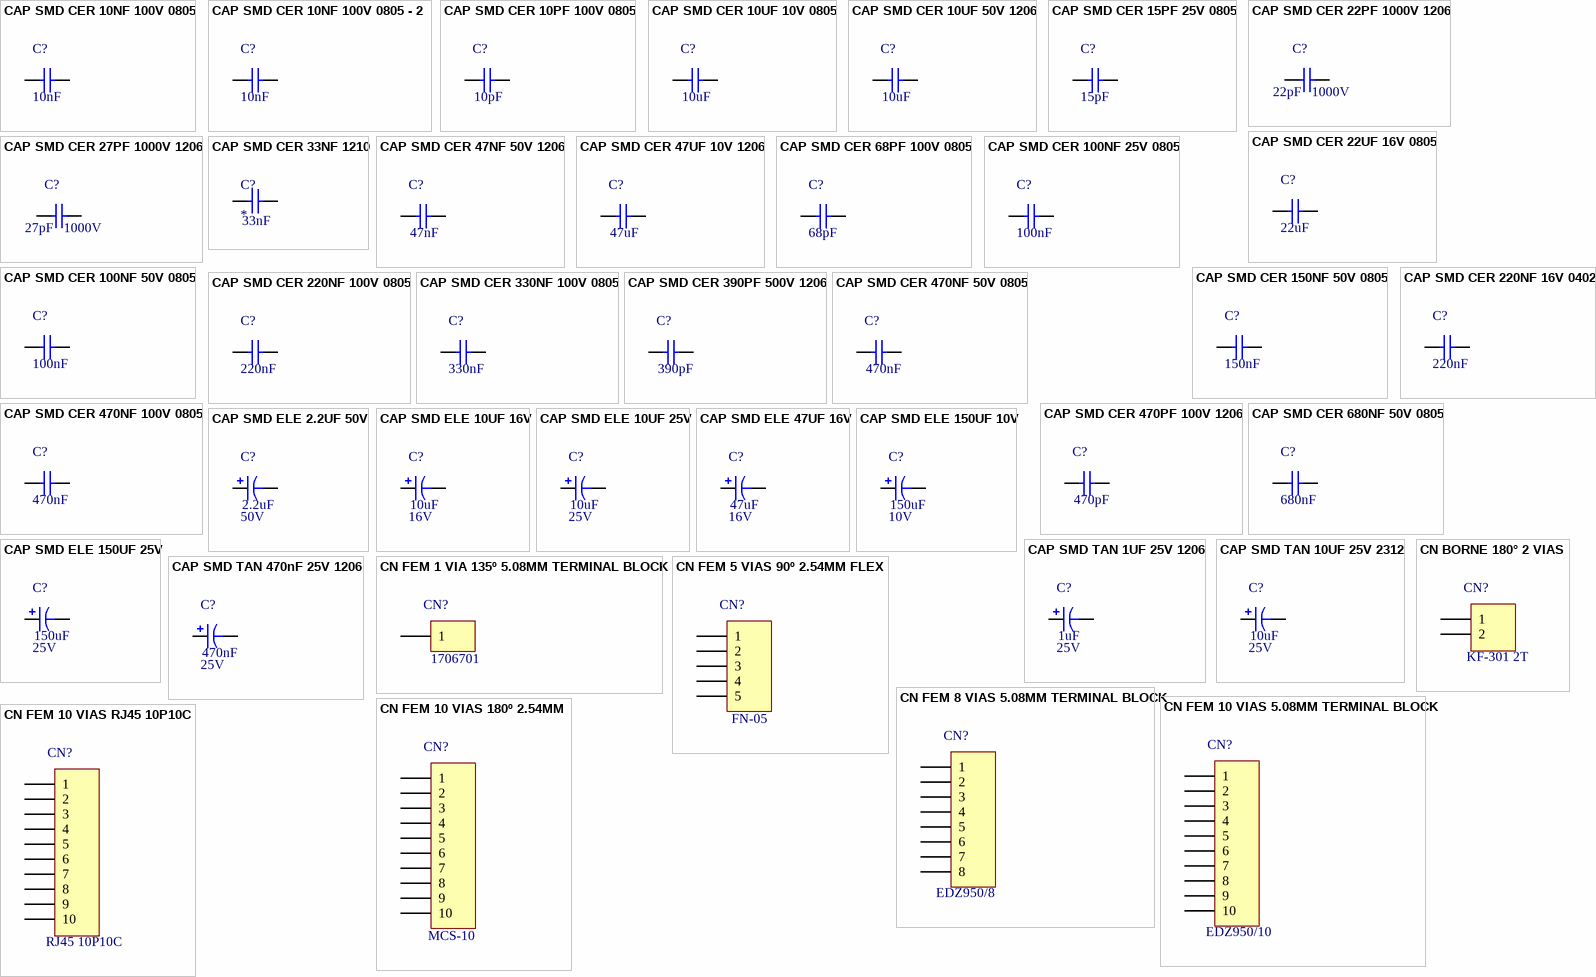
[diagram p2: symbols CAP SMD CER 10NF 100V 0805 to CN FEM 10 VIAS RJ45 10P10C]

## CAP SMD CER 10NF 100V 0805
designator C?  value 10nF  (hidden comment: CAP SMD CER 10NF 100V 0805)
COD. CRISTOFOLI: EMP.00043; Tolerance: 10%; List: CAP CER 10000PF 100V X7R 0805 / C2012X7R2A103K085AA / TDK; Type: CERAMIC; Voltage: 100V
pins: 1, 2

## CAP SMD CER 10NF 100V 0805 - 2
designator C?  value 10nF  (hidden comment: CAP SMD CER 10NF 100V 0805 - 2)
COD. CRISTOFOLI: EMP.00129; Tolerance: 10%; List: Capacitor 0.01uF 100volts X7R 10% 0805 /08051C103K4T2A/AVX; Type: CERAMIC; Voltage: 100V
pins: 1, 2

## CAP SMD CER 10PF 100V 0805
designator C?  value 10pF  (hidden comment: CAP SMD CER 10PF 100V 0805)
COD. CRISTOFOLI: EMP.00249; Tolerance: 5%; List: CAP CER 10PF 100V 5% NP0 0805/C0805C100J1GACTU/Kemet; Type: CERAMIC; Voltage: 100V
pins: 1, 2

## CAP SMD CER 10UF 10V 0805
designator C?, comment value 10uF  (hidden comment: CAP SMD CER 10UF 50V 1206)
Multilayer Ceramic Capacitors MLCC - SMD/SMT 10 uF 10 VDC 10% 0805 X7R; COD. CRISTOFOLI: EMP.00322; Tolerance: 20%; List: CAP CER 10UF 50V X5R 1206/UMK316BBJ106ML-T/Generic; Voltage: 50V; Type: CERAMIC
footprint CAP0805OK
pins: 1, 2

## CAP SMD CER 10UF 50V 1206
designator C?  value 10uF  (hidden comment: CAP SMD CER 10UF 50V 1206)
COD. CRISTOFOLI: EMP.00322; Tolerance: 20%; List: CAP CER 10UF 50V X5R 1206/UMK316BBJ106ML-T/Generic; Type: CERAMIC; Voltage: 50V
pins: 1, 2

## CAP SMD CER 15PF 25V 0805
designator C?  value 15pF  (hidden comment: CAP SMD CER 15PF 25V 0805)
COD. CRISTOFOLI: EMP.00003; Tolerance: 10%; List: CAPACITORES DE CERÂMICA MULTICAMADA MLCC - SMD/SMT 25VOLTS 15PF C0G 10% - KEMET C0805C150K3GACTU; Type: CERAMIC; Voltage: 25V
pins: 1, 2

## CAP SMD CER 22PF 1000V 1206
designator C?  value 22pF  Voltage: 1000V  (hidden comment: CAP SMD CER 22PF 1000V 1206)
COD. CRISTOFOLI: EMP.00376; Tolerance: 5%; List: CER 22PF 1KV NP0 1206/102R18N220JV4E/Johanson Dielectrics Inc.; Type: CERAMIC
pins: 1, 2

## CAP SMD CER 22UF 16V 0805
designator C?  value 22uF  (hidden comment: CAP SMD CER 22UF 16V 0805)
COD. CRISTOFOLI: EMP.00236; Tolerance: 20%; List: CAP CER 22UF 16V 20% X5R 0805/C2012X5R1C226M085AC//TDK Corporation; Type: CERAMIC; Voltage: 16V
pins: 1, 2

## CAP SMD CER 27PF 1000V 1206
designator C?  value 27pF  Voltage: 1000V  (hidden comment: CAP SMD CER 27PF 1000V 1206)
COD. CRISTOFOLI: EMP.00114; Tolerance: 5%; List: CAP CER 27PF 1KV 5% U2J 1206/GRM31A7U3A270JW31D/Murata; Type: CERAMIC
pins: 1, 2

## CAP SMD CER 33NF 1210
designator C?  value 33nF
MF: Kemet; MP: C1210C335K5RAC; Check_prices: https://www.snapeda.com/parts/C1210C335K5RAC/Kemet/view-part/105493/?ref=eda; Price: None; Availability: Warning; Package: 1210 Kemet; Purchase-URL: https://pricing.snapeda.com/search/part/C1210C335K5RAC/?ref=eda; SnapEDA_Link: https://www.snapeda.com/parts/C1210C335K5RAC/Kemet/view-part/105493/?ref=snap
footprint 1210
pins: 1, 2

## CAP SMD CER 47NF 50V 1206
designator C?  value 47nF  (hidden comment: CAP SMD CER 47NF 50V 1206)
COD. CRISTOFOLI: EMP.00361; Tolerance: 5%; List: CAP CER 0.047UF 50V NP0 1206/GRM31M5C1H473JA01L/Murata Electronics; Type: CERAMIC; Voltage: 50V
pins: 1, 2

## CAP SMD CER 47UF 10V 1206
designator C?  value 47uF  (hidden comment: CAP SMD CER 47UF 10V 1206)
COD. CRISTOFOLI: EMP.00321; Tolerance: 20%; List: CAP CER 47UF 10V X5R 1206/GRM31CR61A476ME15L/Generic; Type: CERAMIC; Voltage: 10V
pins: 1, 2

## CAP SMD CER 68PF 100V 0805
designator C?  value 68pF  (hidden comment: CAP SMD CER 68PF 100V 0805)
COD. CRISTOFOLI: EMP.00210; Tolerance: 5%; List: CAP CER 68PF 100V 5% NP0 0805/C0805C680J1GACTU/Kemet/Generic; Type: CERAMIC; Voltage: 100V
pins: 1, 2

## CAP SMD CER 100NF 25V 0805
designator C?  value 100nF  (hidden comment: CAP SMD CER 100NF 25V 0805)
COD. CRISTOFOLI: EMP.00094; Tolerance: 10%; List: CAP CER 0.1UF 25V 10% X7R 0805/CGJ4J2X7R1E104K125AA/TDK; Type: CERAMIC; Voltage: 25V
pins: 1, 2

## CAP SMD CER 100NF 50V 0805
designator C?  value 100nF  (hidden comment: CAP SMD CER 100NF 50V 0805)
COD. CRISTOFOLI: EMP.50119; Tolerance: 10%; Type: CERAMIC; Voltage: 50V; List: CAP SMD CER 100NF 50V 0805
footprint CAP0805OK
pins: 1, 2

## CAP SMD CER 150NF 50V 0805
designator C?  value 150nF  (hidden comment: CAP SMD CER 150NF 50V 0805)
COD. CRISTOFOLI: EMP.50105; Tolerance: 10%; List: CAP CER 0.15UF 50V 10% X7R 0805/CL21B154KBFNNNE/Samsung; Type: CERAMIC; Voltage: 50V
footprint CAPC1206 (Multilayer Ceramic Capacitors MLCC  3.2X1.6X1mm)
pins: 1, 2

## CAP SMD CER 220NF 16V 0402
designator C?  value 220nF  (hidden comment: CAP SMD CER 220NF 16V 0402)
COD. CRISTOFOLI: EMP.00200; Tolerance: 10%; List: CAP CER 0.22UF 16V 10% X5R 040/ C1005X5R1C224K050BB/TDK Corporation; Type: CERAMIC; Voltage: 16V
pins: 1, 2

## CAP SMD CER 220NF 100V 0805
designator C?  value 220nF  (hidden comment: CAP SMD CER 220NF 100V 0805)
COD. CRISTOFOLI: EMP.00229; Tolerance: 10%; List: CAP CER 0.22UF 100V 10% X7S 0805/C2012X7S2A224K085AE/TDK Corporation/Generic; Type: CERAMIC; Voltage: 100V
pins: 1, 2

## CAP SMD CER 330NF 100V 0805
designator C?  value 330nF  (hidden comment: CAP SMD CER 330NF 100V 0805)
COD. CRISTOFOLI: EMP.00041; Tolerance: 10%; List: CAP CER 0.33UF 100V 10% X7S 0805 / C2012X7S2A334K125AB / TDK; Type: CERAMIC; Voltage: 100V
pins: 1, 2

## CAP SMD CER 390PF 500V 1206
designator C?  value 390pF  (hidden comment: CAP SMD CER 390PF 500V 1206)
Manufacturer: KEMET; Manufacturer Part Number: C1206C391JCGACTU; COD. CRISTOFOLI: EMP.00457; Tolerance: 5%; List: CAP CER 390PF 500V 1206; Type: CERAMIC; Voltage: 500V
pins: 1, 2

## CAP SMD CER 470NF 50V 0805
designator C?  value 470nF  (hidden comment: CAP SMD CER 470NF 50V 0805)
COD. CRISTOFOLI: EMP.00142; Tolerance: 10%; List: CAP CER 0.47UF 50V 10% X7R 0805/C0805C474K5RACTU/AVX; Type: CERAMIC; Voltage: 50V
pins: 1, 2

## CAP SMD CER 470NF 100V 0805
designator C?  value 470nF  (hidden comment: CAP SMD CER 470NF 100V 0805)
COD. CRISTOFOLI: EMP.00245; Tolerance: 10%; List: CAP CER 0.47UF 100V 10% X7R 0805/GRM21BR72A474KA73L/Murata Electronics North America; Type: CERAMIC; Voltage: 100V
pins: 1, 2

## CAP SMD CER 470PF 100V 1206
designator C?  value 470pF  (hidden comment: CAP SMD CER 470PF 100V 1206)
Manufacturer: KEMET; Manufacturer Part Number: C1206C471J1HACTU; COD. CRISTOFOLI: EMP.00459; Tolerance: 5%; List: CAP CER 470PF 100V 1206; Type: CERAMIC; Voltage: 100V
pins: 1, 2

## CAP SMD CER 680NF 50V 0805
designator C?  value 680nF  (hidden comment: CAP SMD CER 680NF 50V 0805)
COD. CRISTOFOLI: EMP.00226; Tolerance: 10%; List: CAP CER 0.68UF 50V 10% X7R 0805/C2012X7R1H684K125AB/TDK Corporation; Type: CERAMIC; Voltage: 50V
pins: 1, 2

## CAP SMD ELE 2.2UF 50V
designator C?  value 2.2uF  Voltage: 50V  (hidden comment: CAP SMD ELE 2.2UF 50V)
COD. CRISTOFOLI: EMP.00130; Tolerance: 20%; List: CAP ALUM 2.2UF 50V 20% SMD/ EEE-1HA2R2SR/Panasonic; Type: ALUMINIUM ELETROLITHIC
pins: 1, 2

## CAP SMD ELE 10UF 16V
designator C?  value 10uF  Voltage: 16V  (hidden comment: CAP SMD ELE 10UF 16V)
Manufacturer: PANASONIC; Manufacturer Part Number: ECA-1CM100; COD. CRISTOFOLI: EMP.00000; Tolerance: 20%; List: CAPACITORES ELETROLÍTICOS DE ALUMÍNIO - 10UF 16VOLTS – ECA-1CM100 / PANASONIC; Type: ALUMINIUM ELETROLITHIC
pins: 1, 2

## CAP SMD ELE 10UF 25V
designator C?  value 10uF  Voltage: 25V  (hidden comment: CAP SMD ELE 10UF 25V)
COD. CRISTOFOLI: EMP.00002; Tolerance: 20%; List: CAPACITORES ELETROLÍTICOS DE ALUMÍNIO - SMD 10UF 25 VOLTS 0.2 – KEMET EEV106M025A9BAA / PANASONIC EEE-1VA100WR; Type: ALUMINIUM ELETROLITHIC
pins: 1, 2

## CAP SMD ELE 47UF 16V
designator C?  value 47uF  Voltage: 16V  (hidden comment: CAP SMD ELE 47UF 16V)
COD. CRISTOFOLI: EMP.00131; Tolerance: 20%; List: CAP ALUM 47UF 16V 20% SMD/EXV476M016A9GAA/KEMET; Type: ALUMINIUM ELETROLITHIC
pins: 1, 2

## CAP SMD ELE 150UF 10V
designator C?  value 150uF  Voltage: 10V  (hidden comment: CAP SMD ELE 150UF 10V)
COD. CRISTOFOLI: EMP.00242; Tolerance: 20%; List: CAP ALUM 150UF 10V 20% SMD/UWX1A151MCL1GB/Nichicon; Type: ALUMINIUM ELETROLITHIC
pins: 1, 2

## CAP SMD ELE 150UF 25V
designator C?  value 150uF  Voltage: 25V  (hidden comment: CAP SMD ELE 150UF 25V)
COD. CRISTOFOLI: EMP.00147; Tolerance: 20%; List: CAP ALUM 150UF 25V 20% SMD/UCD1E151MNL1GS/Nichicom; Type: ALUMINIUM ELETROLITHIC
pins: 1, 2

## CAP SMD TAN 1UF 25V 1206
designator C?  value 1uF  Voltage: 25V  (hidden comment: CAP SMD TAN 1UF 25V 1206)
COD. CRISTOFOLI: EMP.00042; Tolerance: 10%; List: CAP TANT 1UF 25V 10% 1206 / 293D105X9025A2TE3 / Vishay Sprague; Type: TANTALUM
pins: 1, 2

## CAP SMD TAN 10UF 25V 2312
designator C?  value 10uF  Voltage: 25V  (hidden comment: CAP SMD TAN 10UF 25V 2312)
COD. CRISTOFOLI: EMP.00040; Tolerance: 20%; List: CAP TANT 10UF 25V 20% 2312 / 293D106X0025C2TE3 / Vishay; Type: TANTALUM
footprint CAP2312
pins: 1, 2

## CAP SMD TAN 470nF 25V 1206
designator C?  value 470nF  Voltage: 25V  (hidden comment: CAP SMD TAN 470nF 25V 1206)
Manufacturer Part Number: T491A474K025AT; COD. CRISTOFOLI: EMP.00000; Tolerance: 10%; List: CAP TANT 470nF 25V 10% 1206 / T491A474K025AT / KEMET; Type: TANTALUM
pins: 1, 2

## CN BORNE 180° 2 VIAS
designator CN?, comment Manufacturer Part Number: KF-301 2T  (hidden comment: BORNE KF-301 2T)
COD. CRISTOFOLI: EMP.00000; List: CONECTOR BORNE KF-301 2T
footprint KF-301 2T
pins: 1, 2

## CN FEM 1 VIA 135º 5.08MM TERMINAL BLOCK
designator CN?  Manufacturer Part Number: 1706701  (hidden comment: CN FEM 1 VIA 135º 5.08MM TERMINAL BLOCK)
Manufacturer: PHOENIX; COD. CRISTOFOLI: EMP.00022; List: CONN TERM BLOCK MOD 5.08MM 1POS / 1706701 / Phoenix
footprint 1706701
pins: 1

## CN FEM 5 VIAS 90º 2.54MM FLEX
designator CN?  Manufacturer Part Number: FN-05  (hidden comment: CN FEM 5 VIAS 90º 2.54MM FLEX)
Manufacturer: METALTEX; COD. CRISTOFOLI: EMP.00004; List: CONECTOR PARA PCI FLEXÍVEL 90° - FN05 – METALTEX FN05
pins: 1, 2, 3, 4, 5

## CN FEM 8 VIAS 5.08MM TERMINAL BLOCK
designator CN?  Manufacturer Part Number: EDZ950/8  (hidden comment: CN FEM 8 VIAS 5.08MM TERMINAL BLOCK)
Manufacturer: On Shore Technology Inc.; COD. CRISTOFOLI: EMP.00382; List: TERM BLOCK PLUG 8POS STR 5.08MM/EDZ950/8/Generic
footprint EDZ950/8
pins: 1, 2, 3, 4, 5, 6, 7, 8

## CN FEM 10 VIAS 5.08MM TERMINAL BLOCK
designator CN?  Manufacturer Part Number: EDZ950/10  (hidden comment: CN FEM 10 VIAS 5.08MM TERMINAL BLOCK)
Manufacturer: On Shore Technology Inc.; COD. CRISTOFOLI: EMP.00381; List: TERM BLOCK PLUG 10POS STR 5.08MM/EDZ950/10/Generic
footprint EDZ950/10
pins: 1, 2, 3, 4, 5, 6, 7, 8, 9, 10

## CN FEM 10 VIAS 180º 2.54MM
designator CN?  Manufacturer Part Number: MCS-10  (hidden comment: CN FEM 10 VIAS 180º 2.54MM)
Manufacturer: METALTEX; COD. CRISTOFOLI: EMP.00464; List: Barra de pinos femea 180° / MCS-10 / BCI-010-1E
footprint MCS-10
pins: 1, 2, 3, 4, 5, 6, 7, 8, 9, 10

## CN FEM 10 VIAS RJ45 10P10C
designator CN?, comment Manufacturer Part Number: RJ45 10P10C  (hidden comment: CN RJ45 10P10C)
Manufacturer: METALTEX; COD. CRISTOFOLI: EMP.00417; List: CONECTOR 90°G RJ45 10P10C 10 VIAS XW-511-21-B / YH55-07
footprint RJ4510P10C
pins: 1, 2, 3, 4, 5, 6, 7, 8, 9, 10

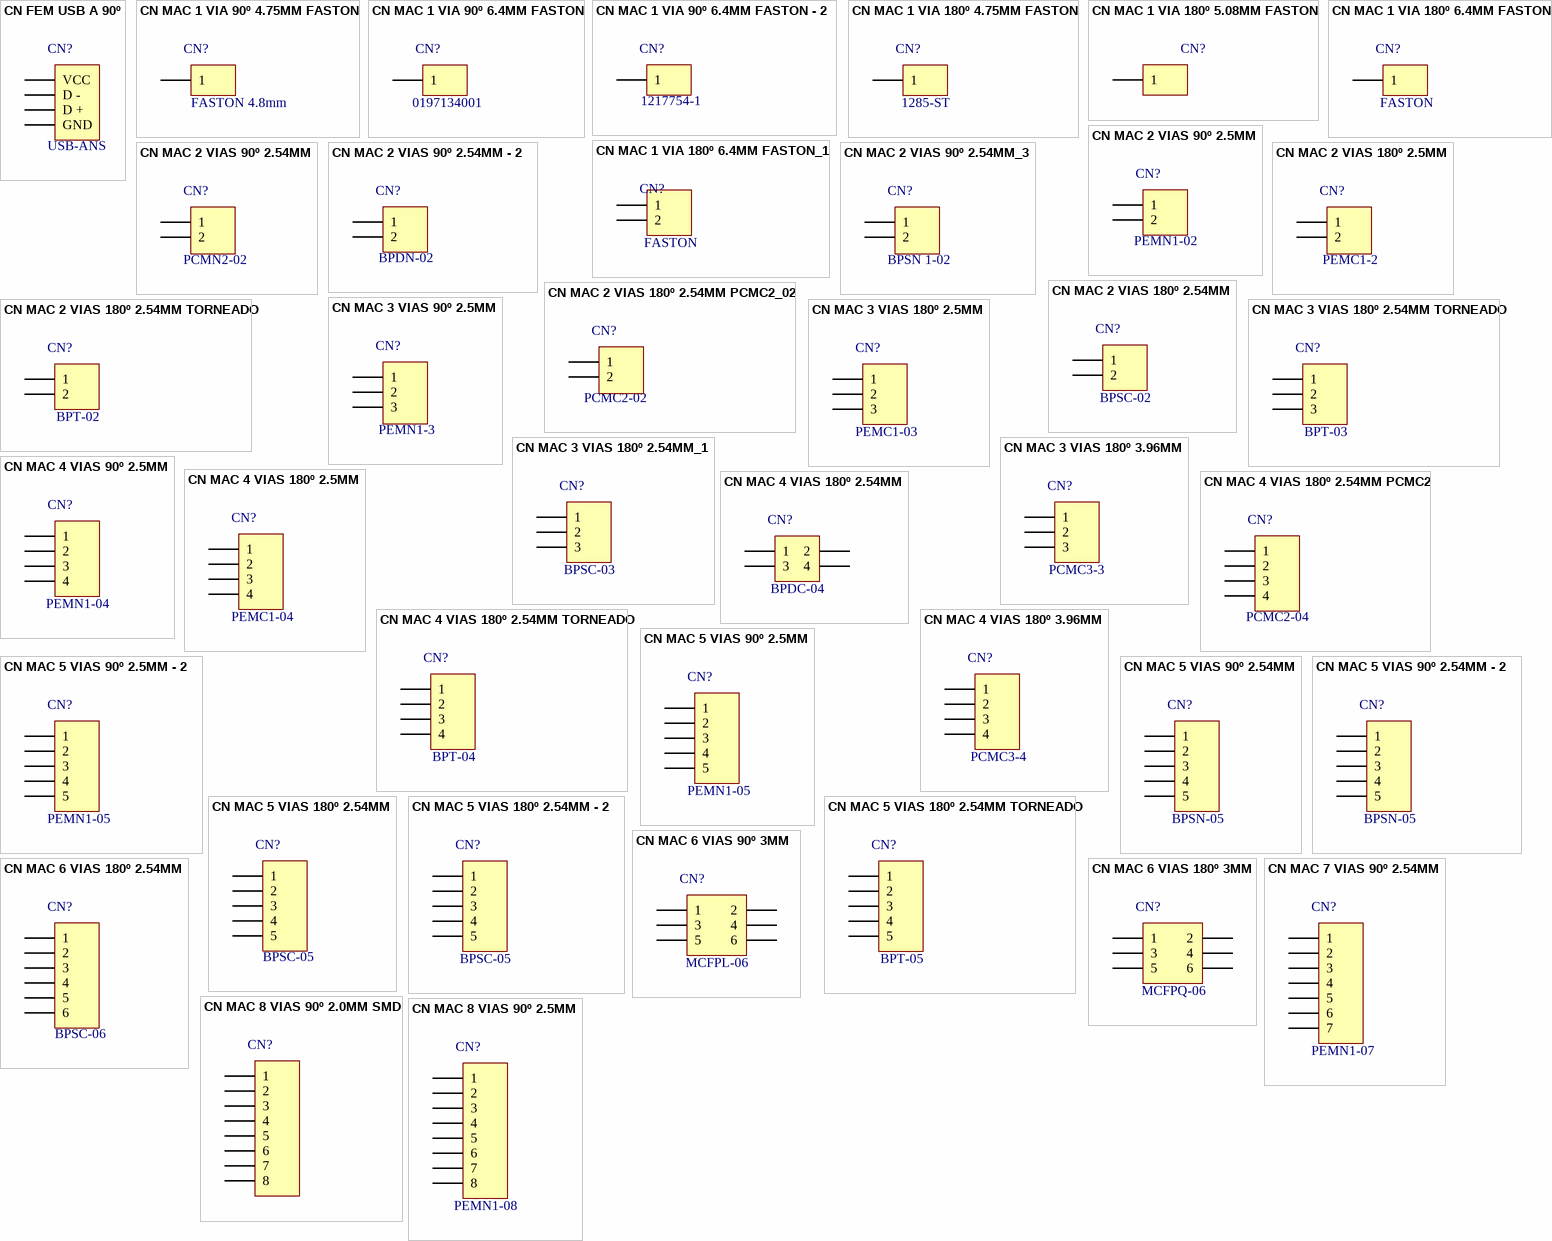
[diagram p3: symbols CN FEM USB A 90º to CN MAC 8 VIAS 90º 2.5MM]

## CN FEM USB A 90º
designator CN?  Manufacturer Part Number: USB-ANS  (hidden comment: CN FEM USB A 90º)
Manufacturer: METALTEX; COD. CRISTOFOLI: EMP.00243; List: CONN ANS - USB A fêmea simples 90º /USB-ANS /Metaltex
footprint USB-ANS
pins: 1 VCC, 2 D -, 3 D +, 4 GND

## CN MAC 1 VIA 90º 4.75MM FASTON
designator CN?  Manufacturer Part Number: FASTON 4.8mm  (hidden comment: CN MAC 1 VIA 90º 4.75MM FASTON)
Manufacturer: Keystone Electronics; COD. CRISTOFOLI: EMP.00412; List: CONN QC TAB FASTON 90° 0.187 SOLDER 4.75mm/36-4904-ND
footprint FS5.8-90
pins: 1

## CN MAC 1 VIA 90º 6.4MM FASTON
designator CN?  Manufacturer Part Number: 0197134001  (hidden comment: CN MAC 1 VIA 90º 6.4MM FASTON)
Manufacturer: MOLEX; COD. CRISTOFOLI: EMP.00379; List: CONN QC TAB 0.250  W (6,35MM) SOLDER 90°/ 0197134001 / MOLEX /CRITICO
footprint FASTON6.35MM
pins: 1

## CN MAC 1 VIA 90º 6.4MM FASTON - 2
designator CN?  Manufacturer Part Number: 1217754-1  (hidden comment: CN MAC 1 VIA 90º 6.4MM FASTON - 2)
Manufacturer: TE Connectivity; COD. CRISTOFOLI: EMP.00410; List: CONN QC TAB 90° L (7.92mm),W (6,35mm) SOLDER\1217754-1\TE Connectivity
footprint 1217754-1
pins: 1

## CN MAC 1 VIA 180º 4.75MM FASTON
designator CN?  Manufacturer Part Number: 1285-ST  (hidden comment: CN MAC 1 VIA 180º 4.75MM FASTON)
Manufacturer: Keystone Electronics; COD. CRISTOFOLI: EMP.00392; List: CONN QC TAB 0.187   180° SOLDER/1285-ST/Keystone Electronics
pins: 1

## CN MAC 1 VIA 180º 5.08MM FASTON
designator CN?  (value not drawn)
footprint FASTON_5.08mm
pins: 1

## CN MAC 1 VIA 180º 6.4MM FASTON
designator CN?  Manufacturer Part Number: FASTON  (hidden comment: CN MAC 1 VIA 180º 6.4MM FASTON)
Manufacturer: TE Connectivity; COD. CRISTOFOLI: EMP.00087; List: CONN TAB .250 STR QC TIN PCB  MACHO FASTON/1217861-1/TE Connectivity
footprint FASTON_5.08mm
pins: 1

## CN MAC 1 VIA 180º 6.4MM FASTON_1
designator CN?, comment Manufacturer Part Number: FASTON  (hidden comment: CN MAC 1 VIA 180º 6.4MM FASTON)
Manufacturer: TE Connectivity; COD. CRISTOFOLI: EMP.00087; List: CONN TAB .250 STR QC TIN PCB  MACHO FASTON/1217861-1/TE Connectivity
footprint RES100W
pins: 1, 2

## CN MAC 2 VIAS 90º 2.5MM
designator CN?  Manufacturer Part Number: PEMN1-02  (hidden comment: CN MAC 2 VIAS 90º 2.5MM)
Manufacturer: METALTEX; COD. CRISTOFOLI: EMP.00310; List: Conector placa-cabo 2,50mm PCI 90º 2P /PEMN1-02/Metaltex
footprint PEMN1-02
pins: 1, 2

## CN MAC 2 VIAS 90º 2.54MM
designator CN?  Manufacturer Part Number: PCMN2-02  (hidden comment: CN MAC 2 VIAS 90º 2.54MM)
Manufacturer: METALTEX; COD. CRISTOFOLI: EMP.00208; List: Conector placa-cabo 2,54mm /PCMN2-02/Metaltex
footprint PCMN2-2
pins: 1, 2

## CN MAC 2 VIAS 90º 2.54MM - 2
designator CN?  Manufacturer Part Number: BPDN-02  (hidden comment: CN MAC 2 VIAS 90º 2.54MM - 2)
Manufacturer: METALTEX; COD. CRISTOFOLI: EMP.00284; List: Conector Barra de Dupla 90° 2Pinos /BPDN-02/Metaltex
pins: 1, 2

## CN MAC 2 VIAS 90º 2.54MM_3
designator CN?  (value not drawn)
BPSN 1-02; Manufacturer: METALTEX; List: Conector placa-cabo 2,50mm 4P  90/BPSN 1-02/Metaltex; Manufacturer Part Number: BPSN 1-02
footprint BPSN-5
pins: 1, 2

## CN MAC 2 VIAS 180º 2.5MM
designator CN?  Manufacturer Part Number: PEMC1-2  (hidden comment: CN MAC 2 VIAS 180º 2.5MM)
Manufacturer: METALTEX; COD. CRISTOFOLI: EMP.00121; List: Conector placa-cabo 2,50mm, 2P PCI 180º/PEMC1-2/Metaltex
footprint PEMC1-2 Conector placa-cabo 2,50mm
pins: 1, 2

## CN MAC 2 VIAS 180º 2.54MM
designator CN?  Manufacturer Part Number: BPSC-02  (hidden comment: CN MAC 2 VIAS 180º 2.54MM)
Manufacturer: METALTEX; COD. CRISTOFOLI: EMP.00256; List: Barra de pinos Macho 180° / BPSC-02 / metaltex
footprint BPSC-2
pins: 1, 2

## CN MAC 2 VIAS 180º 2.54MM PCMC2_02
designator CN?  Manufacturer Part Number: PCMC2-02  (hidden comment: CN MAC 2 VIAS 180º 2.54MM PCMC2_02)
Manufacturer: METALTEX; COD. CRISTOFOLI: EMP.50141; List: Conector placa-cabo 2,54mm, 2 pinos   /PCMC2-2/Metaltex
footprint PCMC2-02
pins: 1, 2

## CN MAC 2 VIAS 180º 2.54MM TORNEADO
designator CN?  Manufacturer Part Number: BPT-02  (hidden comment: CN MAC 2 VIAS 180º 2.54MM TORNEADO)
Manufacturer: METALTEX; COD. CRISTOFOLI: EMP.00048; List: Conector macho Barra de Pinos / BPT-02 / Metaltex
footprint BPT-02
pins: 1, 2

## CN MAC 3 VIAS 90º 2.5MM
designator CN?  Manufacturer Part Number: PEMN1-3  (hidden comment: CN MAC 3 VIAS 90º 2.5MM)
Manufacturer: METALTEX; COD. CRISTOFOLI: EMP.00141; List: Conector placa-cabo 2,50mm PCI 90º 3P /PEMN1-3/Metaltex
footprint PEMN1-03
pins: 1, 2, 3

## CN MAC 3 VIAS 180º 2.5MM
designator CN?  Manufacturer Part Number: PEMC1-03  (hidden comment: CN MAC 3 VIAS 180º 2.5MM)
Manufacturer: METALTEX; COD. CRISTOFOLI: EMP.00282; List: Conector PCB 2,5mm 180° 3 P/PEMC1-03/METALTEX
footprint pemc1-3
pins: 1, 2, 3

## CN MAC 3 VIAS 180º 2.54MM TORNEADO
designator CN?  Manufacturer Part Number: BPT-03  (hidden comment: CN MAC 3 VIAS 180º 2.54MM TORNEADO)
Manufacturer: METALTEX; COD. CRISTOFOLI: EMP.00047; List: Barra de Pinos macho / BPT-03 / Metaltex
footprint BPT-03
pins: 1, 2, 3

## CN MAC 3 VIAS 180º 2.54MM_1
designator CN?, comment Manufacturer Part Number: BPSC-03  (hidden comment: CN MAC 3 VIAS 180º 2.54MM)
Manufacturer: METALTEX; COD. CRISTOFOLI: EMP.00255; List: Barra de pinos Macho 180° / BPSC-03 / metaltex
footprint BPSC-3
pins: 1, 2, 3

## CN MAC 3 VIAS 180º 3.96MM
designator CN?  Manufacturer Part Number: PCMC3-3  (hidden comment: CN MAC 3 VIAS 180º 3.96MM)
Manufacturer: METALTEX; COD. CRISTOFOLI: EMP.00168; List: Conector placa-cabo 3,96mm/PCMC3-3/Metaltex
footprint PCMC2-3
pins: 1, 2, 3

## CN MAC 4 VIAS 90º 2.5MM
designator CN?  Manufacturer Part Number: PEMN1-04  (hidden comment: CN MAC 4 VIAS 90º 2.5MM)
Manufacturer: METALTEX; COD. CRISTOFOLI: EMP.00241; List: Conector placa-cabo 2,50mm 4P  90/PEMN 1-04/Metaltex
footprint PEMN1-04
pins: 1, 2, 3, 4

## CN MAC 4 VIAS 180º 2.5MM
designator CN?  Manufacturer Part Number: PEMC1-04  (hidden comment: CN MAC 4 VIAS 180º 2.5MM)
Manufacturer: METALTEX; COD. CRISTOFOLI: EMP.00240; List: Conector placa-cabo 2,50mm 4P  180/PEMC 1-04/Metaltex
footprint PEMC1-4
pins: 1, 2, 3, 4

## CN MAC 4 VIAS 180º 2.54MM
designator CN?  Manufacturer Part Number: BPDC-04  (hidden comment: CN MAC 4 VIAS 180º 2.54MM)
Manufacturer: METALTEX; COD. CRISTOFOLI: EMP.00283; List: Conector Barra de Dupla 180° 4Pinos /BPDC-04/Metaltex
footprint BPDC-4
pins: 1, 2, 3, 4

## CN MAC 4 VIAS 180º 2.54MM PCMC2
designator CN?  Manufacturer Part Number: PCMC2-04  (hidden comment: CN MAC 4 VIAS 180º 2.54MM PCMC2)
Manufacturer: METALTEX; COD. CRISTOFOLI: EMP.00299; List: Conector placa-cabo 2,54mm, 4 pinos   /PCMC2-4/Metaltex
footprint PCMC2-4
pins: 1, 2, 3, 4

## CN MAC 4 VIAS 180º 2.54MM TORNEADO
designator CN?  Manufacturer Part Number: BPT-04  (hidden comment: CN MAC 4 VIAS 180º 2.54MM TORNEADO)
Manufacturer: METALTEX; COD. CRISTOFOLI: EMP.00159; List: Conector Barra de Pinos Macho /BPT-04/Metaltex
footprint BPT-04
pins: 1, 2, 3, 4

## CN MAC 4 VIAS 180º 3.96MM
designator CN?  Manufacturer Part Number: PCMC3-4  (hidden comment: CN MAC 4 VIAS 180º 3.96MM)
Manufacturer: METALTEX; COD. CRISTOFOLI: EMP.00046; List: Conector placa-cabo 3,96mm / PCMC3-4 / Metaltex
footprint PCMC3-4
pins: 1, 2, 3, 4

## CN MAC 5 VIAS 90º 2.5MM
designator CN?  Manufacturer Part Number: PEMN1-05  (hidden comment: CN MAC 5 VIAS 90º 2.5MM)
Manufacturer: METALTEX; COD. CRISTOFOLI: EMP.00148; List: Conector placa-cabo 2,50mm 5P 90º/PEMN1-05/Metaltex
footprint PEMN-05
pins: 1, 2, 3, 4, 5

## CN MAC 5 VIAS 90º 2.5MM - 2
designator CN?  Manufacturer Part Number: PEMN1-05  (hidden comment: CN MAC 5 VIAS 90º 2.5MM - 2)
Manufacturer: METALTEX; COD. CRISTOFOLI: EMP.00179; List: Conector placa-cabo 2,50mm- 90° 5 pinos /PEMN1-5/Metaltex
footprint PEMN-05
pins: 1, 2, 3, 4, 5

## CN MAC 5 VIAS 90º 2.54MM
designator CN?  Manufacturer Part Number: BPSN-05  (hidden comment: CN MAC 5 VIAS 90º 2.54MM)
Manufacturer: METALTEX; COD. CRISTOFOLI: EMP.00312; List: Barra de pinos 2,54mm /BPSN-05/METALTEX
footprint BPSN-5
pins: 1, 2, 3, 4, 5

## CN MAC 5 VIAS 90º 2.54MM - 2
designator CN?  Manufacturer Part Number: BPSN-05  (hidden comment: CN MAC 5 VIAS 90º 2.54MM - 2)
Manufacturer: METALTEX; COD. CRISTOFOLI: EMP.00366; List: Barra de pinos 2,54mm /BPSN-05/METALTEX
footprint BPSN-5
pins: 1, 2, 3, 4, 5

## CN MAC 5 VIAS 180º 2.54MM
designator CN?  Manufacturer Part Number: BPSC-05
Manufacturer: METALTEX; COD. CRISTOFOLI: EMP.00012; List: BARRA DE PINO SIMPLES 180° - CN5P – METALTEX BPSC-5
footprint BPSC - 5
pins: 1, 2, 3, 4, 5

## CN MAC 5 VIAS 180º 2.54MM - 2
designator CN?  Manufacturer Part Number: BPSC-05  (hidden comment: CN MAC 5 VIAS 180º 2.54MM - 2)
Manufacturer: METALTEX; COD. CRISTOFOLI: EMP.00258; List: Barra de pinos Macho 180° / BPSC-05 / metaltex
footprint BPSC-05
pins: 1, 2, 3, 4, 5

## CN MAC 5 VIAS 180º 2.54MM TORNEADO
designator CN?  Manufacturer Part Number: BPT-05  (hidden comment: CN MAC 5 VIAS 180º 2.54MM TORNEADO)
Manufacturer: METALTEX; COD. CRISTOFOLI: EMP.00049; List: Barra de pinos torneados / BPT- 05 / Metaltex
footprint BPT-05
pins: 1, 2, 3, 4, 5

## CN MAC 6 VIAS 90º 3MM
designator CN?  Manufacturer Part Number: MCFPL-06  (hidden comment: CN MAC 6 VIAS 90º 3MM)
Manufacturer: METALTEX; COD. CRISTOFOLI: EMP.00133; List: Conector modular subminiatura MCFPL  6P 90°/MCFPL-06/Metaltex
footprint MCFPL-06
pins: 1, 2, 3, 4, 5, 6

## CN MAC 6 VIAS 180º 2.54MM
designator CN?  Manufacturer Part Number: BPSC-06  (hidden comment: CN MAC 6 VIAS 180º 2.54MM)
Manufacturer: METALTEX; COD. CRISTOFOLI: EMP.00436; List: Barra de pinos Macho 180° / BPSC-03 / metaltex
footprint BPSC-6
pins: 1, 2, 3, 4, 5, 6

## CN MAC 6 VIAS 180º 3MM
designator CN?  Manufacturer Part Number: MCFPQ-06  (hidden comment: CN MAC 6 VIAS 180º 3MM)
Manufacturer: METALTEX; COD. CRISTOFOLI: EMP.00279; List: Conector modular subminiatura  6P 180°/MCFPQ-06/Metaltex
pins: 1, 2, 3, 4, 5, 6

## CN MAC 7 VIAS 90º 2.54MM
designator CN?  Manufacturer Part Number: PEMN1-07  (hidden comment: CN MAC 7 VIAS 90º 2.54MM)
Manufacturer: METALTEX; COD. CRISTOFOLI: EMP.00019; List: CONECTOR PLACA-CABO 2,5MM, COM 07 CONTATOS, SAÍDA 90° - PE MN 1-07 – METALTEX PEMN1-07
footprint PEMN1-07
pins: 1, 2, 3, 4, 5, 6, 7

## CN MAC 8 VIAS 90º 2.0MM SMD
designator CN?  (value not drawn)
Manufacturer: METALTEX; COD. CRISTOFOLI: EMP.50149; List: CN MAC 8 VIAS 90º 2.0MM SMD
footprint PEMN1-8 SMD 2.0MM
pins: 1, 2, 3, 4, 5, 6, 7, 8

## CN MAC 8 VIAS 90º 2.5MM
designator CN?  Manufacturer Part Number: PEMN1-08  (hidden comment: CN MAC 8 VIAS 90º 2.5MM)
Manufacturer: METALTEX; COD. CRISTOFOLI: EMP.00311; List: CONN PEMN1-08 90° 2.5mm/PEMN1-08/METALTEX
footprint PEMN1-08
pins: 1, 2, 3, 4, 5, 6, 7, 8

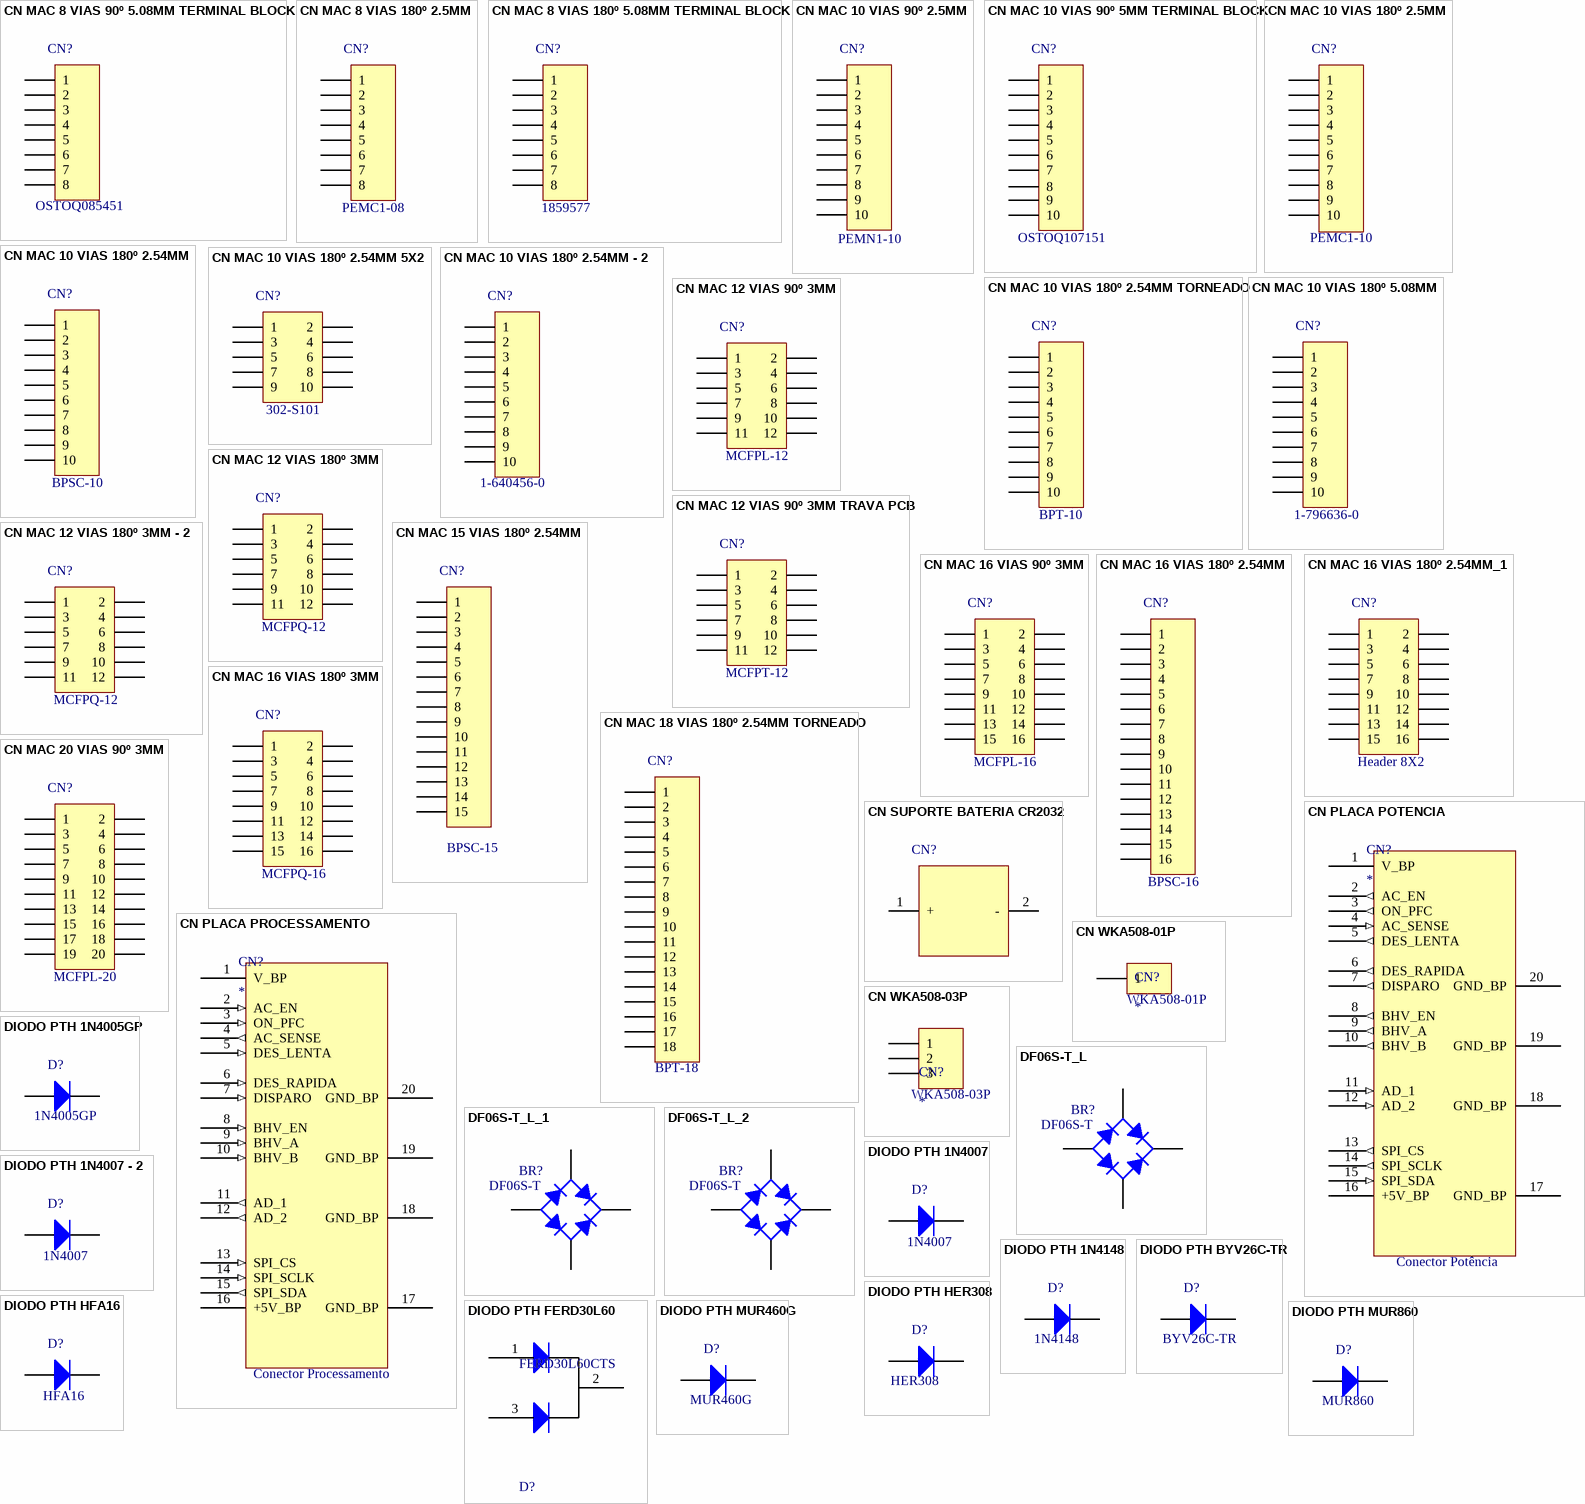
[diagram p4: symbols CN MAC 8 VIAS 90º 5.08MM TERMINAL BLOCK to DIODO PTH MUR860]

## CN MAC 8 VIAS 90º 5.08MM TERMINAL BLOCK
designator CN?  Manufacturer Part Number: OSTOQ085451  (hidden comment: CN MAC 8 VIAS 90º 5.08MM TERMINAL BLOCK)
Manufacturer: On Shore Technology Inc.; COD. CRISTOFOLI: EMP.00380; List: TERM BLOCK HDR 8POS 90DEG 5.08MM/OSTOQ085451/Generic
footprint OSTOQ085451
pins: 1, 2, 3, 4, 5, 6, 7, 8

## CN MAC 8 VIAS 180º 2.5MM
designator CN?  Manufacturer Part Number: PEMC1-08  (hidden comment: CN MAC 8 VIAS 180º 2.5MM)
Manufacturer: METALTEX; COD. CRISTOFOLI: EMP.00317; List: CONN PEMC1-08  180 ° 2.5mm/PEMC1-08/METALTEX
footprint PEMC1-8
pins: 1, 2, 3, 4, 5, 6, 7, 8

## CN MAC 8 VIAS 180º 5.08MM TERMINAL BLOCK
designator CN?  Manufacturer Part Number: 1859577  (hidden comment: CN MAC 8 VIAS 180º 5.08MM TERMINAL BLOCK)
Manufacturer: Phoenix Contact; COD. CRISTOFOLI: EMP.00332; List: TERM BLOCK HDR 8POS VERT 5.08MM/1859577/Phoenix Contact
footprint 1859577
pins: 1, 2, 3, 4, 5, 6, 7, 8

## CN MAC 10 VIAS 90º 2.5MM
designator CN?  Manufacturer Part Number: PEMN1-10  (hidden comment: CN MAC 10 VIAS 90º 2.5MM)
Manufacturer: METALTEX; COD. CRISTOFOLI: EMP.00393; List: CONECTOR PLACA-CABO 2,5MM, COM 10 CONTATOS, SAÍDA 90°//  PE MN 1-10 // METALTEX
pins: 1, 2, 3, 4, 5, 6, 7, 8, 9, 10

## CN MAC 10 VIAS 90º 5MM TERMINAL BLOCK
designator CN?  Manufacturer Part Number: OSTOQ107151  (hidden comment: CN MAC 10 VIAS 90º 5MM TERMINAL BLOCK)
Manufacturer: On Shore Technology Inc.; COD. CRISTOFOLI: EMP.00384; List: TERM BLOCK HDR 10POS 90DEG 5MM/OSTOQ107151/Generic
pins: 1, 2, 3, 4, 5, 6, 7, 8, 9, 10